# Altium schematic symbol library DC-005.SchLib: 1 symbol
Pins are listed as number, name and electrical type; pins without a type are passive.

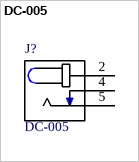
[diagram p0: symbol DC-005]

## DC-005
designator J?
Conn Dc Power Jack 2.1mm; MF: Best Inc.; SnapEDA_Link: https://www.snapeda.com/parts/DC-005/Best%20Inc./view-part/?ref=snap; Package: None; MP: DC-005; Price: None; Availability: Unavailable; Value: *
footprint NINIGI_DC-005
pins: 2, 4, 5